# EAGLE library part MP2144GJ-Z (library MP2144GJ-Z)
Switching Voltage Regulators 2A, 5.5V, 1.2MHz Sync Stp-Dwn Swtchr Source: Datasheet <https://componentsearchengine.com/Datasheets/1/MP2144GJ-Z.pdf>
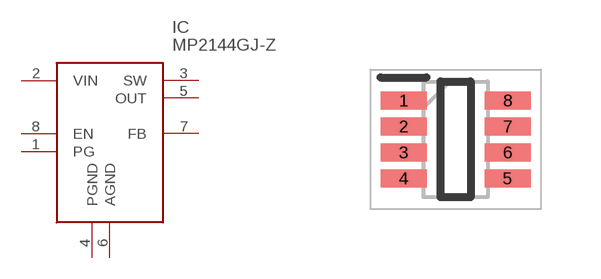
[diagram p0: symbol with the pads of SOT65P280X100-8N; footprint SOT65P280X100-8N]

Designator prefix IC

## MP2144GJ-Z (Description: Switching Voltage Regulators 2A, 5.5V, 1.2MHz Sync Stp-Dwn Swtchr; Height: 1mm; Manufacturer_Name: Monolithic Power Systems (MPS); Manufacturer_Part_Number: MP2144GJ-Z; Mouser_Part_Number: 946-MP2144GJZ; Mouser_Price-Stock: https://www.mouser.com/Search/Refine.aspx?Keyword=946-MP2144GJZ)  [SOT65P280X100-8N]
1  PG
2  VIN
3  SW
4  PGND
5  OUT
6  AGND
7  FB
8  EN

## Footprint SOT65P280X100-8N (pad centres in mm)
TSOT23-8
smd 1.15 x 0.45: 1 -1.3,0.975; 2 -1.3,0.325; 3 -1.3,-0.325; 4 -1.3,-0.975; 5 1.3,-0.975; 6 1.3,-0.325; 7 1.3,0.325; 8 1.3,0.975